# EAGLE library part 4P3T (library mb3_switches)
4P-3T
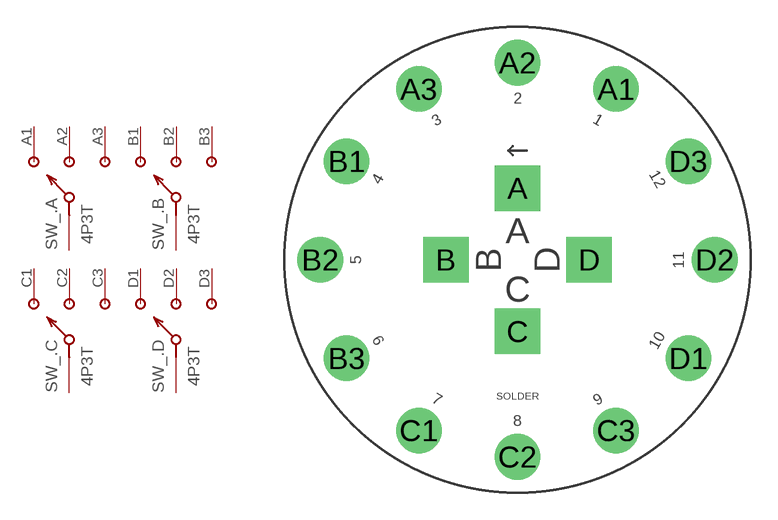
[diagram p5: symbol with the pads of 4P3T; footprint 4P3T]

Designator prefix SW_; gates .A=1P3T .B=1P3T .C=1P3T .D=1P3T

## 4P3T  [4P3T]
A  .A:A
A1  .A:1
A2  .A:2
A3  .A:3
B  .B:A
B1  .B:1
B2  .B:2
B3  .B:3
C  .C:A
C1  .C:1
C2  .C:2
C3  .C:3
D  .D:A
D1  .D:1
D2  .D:2
D3  .D:3

## Footprint 4P3T (pad centres in mm)
Alpha SR2612F-0403 http://smallbear-electronics.mybigcommerce.com/26mm-enclosed-4p2-3t/
drill 1.6 pad 2.54 square: A 0,4; B -4,0; C 0,-4; D 4,0
drill 1.6 pad 2.54: A1 5.5,9.526; A2 0,11; A3 -5.5,9.526; B1 -9.526,5.5; B2 -11,0; B3 -9.526,-5.5; C1 -5.5,-9.526; C2 0,-11; C3 5.5,-9.526; D1 9.526,-5.5; D2 11,0; D3 9.526,5.5